# EAGLE library part HC-05 (library iceberg20)
Bluetooth Modul Datenblatt1: Link <https://cdn.shopify.com/s/files/1/1509/1638/files/HC-05_Wireless_Bluetooth_Transceiver_Modul_fur_Arduino_Datenblatt.pdf?14386780967915088289> Datenballt2: Link <https://components101.com/wireless/hc-05-bluetooth-module>
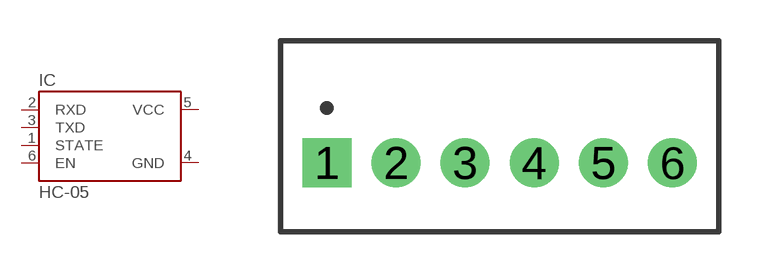
[diagram p6: symbol with the pads of HC-05; footprint HC-05]

Designator prefix IC

## HC-05 (BESTAND: ?)  [HC-05]
1  STATE  out
2  RXD  in
3  TXD  out
4  GND  pwr
5  VCC  pwr
6  EN  in

## Footprint HC-05 (pad centres in mm)
drill 1.2 square: 1 -6.35,-8.89
drill 1.2: 2 -3.81,-8.89; 3 -1.27,-8.89; 4 1.27,-8.89; 5 3.81,-8.89; 6 6.35,-8.89